# Altium schematic symbol library tps26600pwpr.SchLib: 1 symbol
Pins are listed as number, name and electrical type; pins without a type are passive.

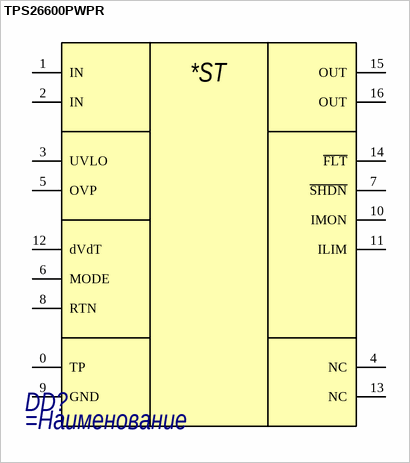
[diagram p0: symbol TPS26600PWPR]

## TPS26600PWPR
designator DD?
=Описание
pins: 0 TP, 1 IN, 2 IN, 3 UVLO, 4 NC, 5 OVP, 6 MODE, 7 ~{SHDN}, 8 RTN, 9 GND, 10 IMON, 11 ILIM, 12 dVdT, 13 NC, 14 ~{FLT}, 15 OUT, 16 OUT
text: *ST